# EAGLE library part 8-BIT-BUS-RESISTOR (library custom-ds)
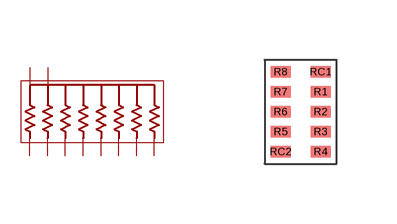
[diagram p4: symbol with the pads of CTS-RESISTOR-ARRAY-10; footprint CTS-RESISTOR-ARRAY-10]

Designator prefix R

## 8-BIT-BUS-RESISTOR  [CTS-RESISTOR-ARRAY-10]
R1  R1
R2  R2
R3  R3
R4  R4
R5  R5
R6  R6
R7  R7
R8  R8
RC1  RC1
RC2  RC2

## Footprint CTS-RESISTOR-ARRAY-10 (pad centres in mm)
smd 0.5 x 0.28: R1 0.5,-0.5; R2 0.5,-1; R3 0.5,-1.5; R4 0.5,-2; R5 -0.5,-1.5; R6 -0.5,-1; R7 -0.5,-0.5; R8 -0.5,0; RC1 0.5,0; RC2 -0.5,-2